# Altium integrated library Linear Technology Power Management Battery Management.IntLib: 626 symbols (part 44 of 56)
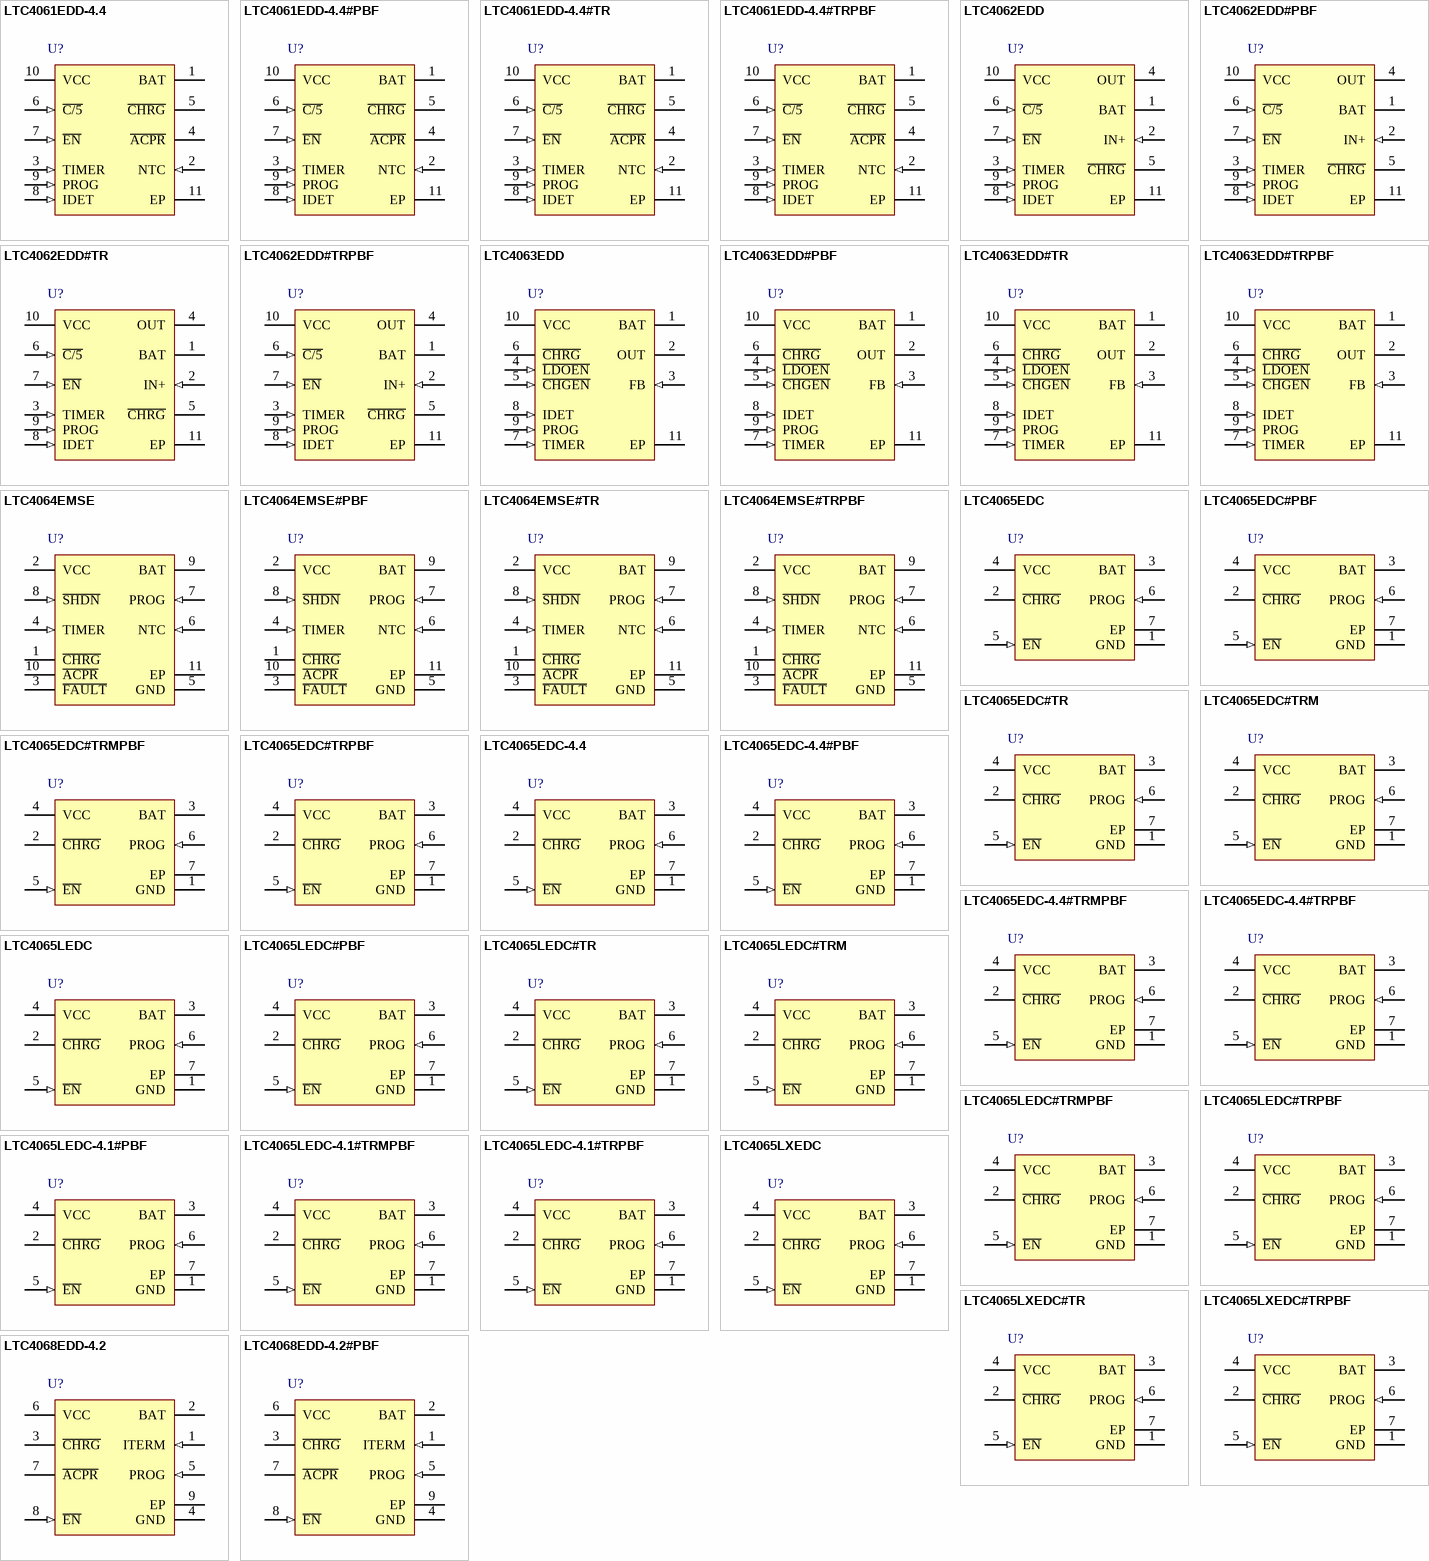
[diagram p65: symbols LTC4061EDD-4.4 to LTC4068EDD-4.2#PBF]

## LTC4065EDC-4.4
designator U?
Standalone 750 mA Li-Ion Battery Charger, 3.75 to 5.5 V Vin, 6-pin SON (DC6-6), -40 to 85 degC; Manufacturer: Linear Technology; PartNumber: LTC4065EDC-4.4; Battery Chemistry: Li-Ion, Li-Polymer; Charge Termination: C/10, On-board timer; Float Voltage: 4.4 V; Max Charge Current(A): 0.75; Number of Cells: 1; Type of Charger: Linear; Vin Max(V): 5.5; Vin Min(V): 3.75; PackageVersion: Rev. B, 06/2010; PackageReference: DC6-6; PackageDescription: 6-Pin Plastic DFN, Body 2 x 2 mm, Pitch 0.5 mm; RoHS: FALSE; Mounting Technology: Surface Mount; Code_JEDEC: MO-229; ComponentLink1Description: Manufacturer URL; ComponentLink1URL: http://www.linear.com/; ComponentLink2Description: Datasheet; ComponentLink2URL: http://cds.linear.com/docs/en/datasheet/406544f.pdf; ComponentLink3Description: Package Specification; ComponentLink3URL: http://cds.linear.com/docs/en/packaging/DFN_6_05-08-1703.pdf
footprint LT-DC6-6_V (SON, 6-Leads, Body 2x2mm, Pitch 0.5mm, Thermal Pad 1.42x0.61mm)
pins: 1 GND (power) "Ground.", 2 ~{CHRG} (hiz) "Open-Drain Charge Status Output. The charge status indicator pin has three states: pull-down, pulse at 2Hz and high impedance state. This output can be used as a logic interface or as an LED driver. When the battery is being (See Datasheet)", 3 BAT (power) "Charge Current Output. Provides charge current to the battery and regulates the final float voltage to 4.4V. An internal precision resistor divider on this pin sets the float voltage and is disconnected in shutdown mode.", 4 VCC (power) "Positive Input Supply Voltage. This pin provides power to the charger. VCC can range from 3.75V to 5.5V. This pin should be bypassed with at least a 1uF capacitor. When VCC is within 30mV of the BAT pin voltage, the (See Datasheet)", 5 ~{EN} (in) "Enable Input Pin. Pulling this pin above the manual shutdown threshold (VMS is typically 0.82V) puts the LTC4065-4.4 in shutdown mode. In shutdown mode, the LTC4065-4.4 has less than 20uA supply current and less than 1uA (See Datasheet)", 6 PROG (in) "Charge Current Program and Charge Current Monitor Pin. Connecting a 1% resistor, RPROG, to ground programs the charge current. When charging in constant-current mode, this pin servos to 1V.", 7 EP (power) "Ground. The Exposed Pad must be soldered to the PCB ground to provide both electrical contact and rated thermal performance."

## LTC4065EDC-4.4#PBF
designator U?
Standalone 750 mA Li-Ion Battery Charger, 3.75 to 5.5 V Vin, 6-pin SON (DC6-6), -40 to 85 degC, Pb-Free; Manufacturer: Linear Technology; PartNumber: LTC4065EDC-4.4#PBF; Battery Chemistry: Li-Ion, Li-Polymer; Charge Termination: C/10, On-board timer; Float Voltage: 4.4 V; Max Charge Current(A): 0.75; Number of Cells: 1; Type of Charger: Linear; Vin Max(V): 5.5; Vin Min(V): 3.75; PackageVersion: Rev. B, 06/2010; PackageReference: DC6-6; PackageDescription: 6-Pin Plastic DFN, Body 2 x 2 mm, Pitch 0.5 mm; RoHS: TRUE; Mounting Technology: Surface Mount; Code_JEDEC: MO-229; ComponentLink1Description: Manufacturer URL; ComponentLink1URL: http://www.linear.com/; ComponentLink2Description: Datasheet; ComponentLink2URL: http://cds.linear.com/docs/en/datasheet/406544f.pdf; ComponentLink3Description: Package Specification; ComponentLink3URL: http://cds.linear.com/docs/en/packaging/DFN_6_05-08-1703.pdf
footprint LT-DC6-6_V (SON, 6-Leads, Body 2x2mm, Pitch 0.5mm, Thermal Pad 1.42x0.61mm)
pins: 1 GND (power) "Ground.", 2 ~{CHRG} (hiz) "Open-Drain Charge Status Output. The charge status indicator pin has three states: pull-down, pulse at 2Hz and high impedance state. This output can be used as a logic interface or as an LED driver. When the battery is being (See Datasheet)", 3 BAT (power) "Charge Current Output. Provides charge current to the battery and regulates the final float voltage to 4.4V. An internal precision resistor divider on this pin sets the float voltage and is disconnected in shutdown mode.", 4 VCC (power) "Positive Input Supply Voltage. This pin provides power to the charger. VCC can range from 3.75V to 5.5V. This pin should be bypassed with at least a 1uF capacitor. When VCC is within 30mV of the BAT pin voltage, the (See Datasheet)", 5 ~{EN} (in) "Enable Input Pin. Pulling this pin above the manual shutdown threshold (VMS is typically 0.82V) puts the LTC4065-4.4 in shutdown mode. In shutdown mode, the LTC4065-4.4 has less than 20uA supply current and less than 1uA (See Datasheet)", 6 PROG (in) "Charge Current Program and Charge Current Monitor Pin. Connecting a 1% resistor, RPROG, to ground programs the charge current. When charging in constant-current mode, this pin servos to 1V.", 7 EP (power) "Ground. The Exposed Pad must be soldered to the PCB ground to provide both electrical contact and rated thermal performance."

## LTC4065EDC-4.4#TRMPBF
designator U?
Standalone 750 mA Li-Ion Battery Charger, 3.75 to 5.5 V Vin, 6-pin SON (DC6-6), -40 to 85 degC, Pb-Free, Mini Tape and Reel; Manufacturer: Linear Technology; PartNumber: LTC4065EDC-4.4#TRMPBF; Battery Chemistry: Li-Ion, Li-Polymer; Charge Termination: C/10, On-board timer; Float Voltage: 4.4 V; Max Charge Current(A): 0.75; Number of Cells: 1; Type of Charger: Linear; Vin Max(V): 5.5; Vin Min(V): 3.75; PackageVersion: Rev. B, 06/2010; PackageReference: DC6-6; PackageDescription: 6-Pin Plastic DFN, Body 2 x 2 mm, Pitch 0.5 mm; Supplier 1: Digi-Key; Supplier Part Number 1: LTC4065EDC-4.4#TRMPBF-ND; Supplier 2: Farnell; Supplier Part Number 2: 1648040; Supplier 3: Newark; Supplier Part Number 3: 75M6066; Packing: Mini Tape and Reel; RoHS: TRUE; Mounting Technology: Surface Mount; Code_JEDEC: MO-229; ComponentLink1Description: Manufacturer URL; ComponentLink1URL: http://www.linear.com/; ComponentLink2Description: Datasheet; ComponentLink2URL: http://cds.linear.com/docs/en/datasheet/406544f.pdf; ComponentLink3Description: Package Specification; ComponentLink3URL: http://cds.linear.com/docs/en/packaging/DFN_6_05-08-1703.pdf
footprint LT-DC6-6_V (SON, 6-Leads, Body 2x2mm, Pitch 0.5mm, Thermal Pad 1.42x0.61mm)
pins: 1 GND (power) "Ground.", 2 ~{CHRG} (hiz) "Open-Drain Charge Status Output. The charge status indicator pin has three states: pull-down, pulse at 2Hz and high impedance state. This output can be used as a logic interface or as an LED driver. When the battery is being (See Datasheet)", 3 BAT (power) "Charge Current Output. Provides charge current to the battery and regulates the final float voltage to 4.4V. An internal precision resistor divider on this pin sets the float voltage and is disconnected in shutdown mode.", 4 VCC (power) "Positive Input Supply Voltage. This pin provides power to the charger. VCC can range from 3.75V to 5.5V. This pin should be bypassed with at least a 1uF capacitor. When VCC is within 30mV of the BAT pin voltage, the (See Datasheet)", 5 ~{EN} (in) "Enable Input Pin. Pulling this pin above the manual shutdown threshold (VMS is typically 0.82V) puts the LTC4065-4.4 in shutdown mode. In shutdown mode, the LTC4065-4.4 has less than 20uA supply current and less than 1uA (See Datasheet)", 6 PROG (in) "Charge Current Program and Charge Current Monitor Pin. Connecting a 1% resistor, RPROG, to ground programs the charge current. When charging in constant-current mode, this pin servos to 1V.", 7 EP (power) "Ground. The Exposed Pad must be soldered to the PCB ground to provide both electrical contact and rated thermal performance."

## LTC4065EDC-4.4#TRPBF
designator U?
Standalone 750 mA Li-Ion Battery Charger, 3.75 to 5.5 V Vin, 6-pin SON (DC6-6), -40 to 85 degC, Pb-Free, Tape and Reel; Manufacturer: Linear Technology; PartNumber: LTC4065EDC-4.4#TRPBF; Battery Chemistry: Li-Ion, Li-Polymer; Charge Termination: C/10, On-board timer; Float Voltage: 4.4 V; Max Charge Current(A): 0.75; Number of Cells: 1; Type of Charger: Linear; Vin Max(V): 5.5; Vin Min(V): 3.75; PackageVersion: Rev. B, 06/2010; PackageReference: DC6-6; PackageDescription: 6-Pin Plastic DFN, Body 2 x 2 mm, Pitch 0.5 mm; Supplier 1: Digi-Key; Supplier Part Number 1: LTC4065EDC-4.4#TRPBF-ND; Packing: Tape and Reel; RoHS: TRUE; Mounting Technology: Surface Mount; Code_JEDEC: MO-229; ComponentLink1Description: Manufacturer URL; ComponentLink1URL: http://www.linear.com/; ComponentLink2Description: Datasheet; ComponentLink2URL: http://cds.linear.com/docs/en/datasheet/406544f.pdf; ComponentLink3Description: Package Specification; ComponentLink3URL: http://cds.linear.com/docs/en/packaging/DFN_6_05-08-1703.pdf
footprint LT-DC6-6_V (SON, 6-Leads, Body 2x2mm, Pitch 0.5mm, Thermal Pad 1.42x0.61mm)
pins: 1 GND (power) "Ground.", 2 ~{CHRG} (hiz) "Open-Drain Charge Status Output. The charge status indicator pin has three states: pull-down, pulse at 2Hz and high impedance state. This output can be used as a logic interface or as an LED driver. When the battery is being (See Datasheet)", 3 BAT (power) "Charge Current Output. Provides charge current to the battery and regulates the final float voltage to 4.4V. An internal precision resistor divider on this pin sets the float voltage and is disconnected in shutdown mode.", 4 VCC (power) "Positive Input Supply Voltage. This pin provides power to the charger. VCC can range from 3.75V to 5.5V. This pin should be bypassed with at least a 1uF capacitor. When VCC is within 30mV of the BAT pin voltage, the (See Datasheet)", 5 ~{EN} (in) "Enable Input Pin. Pulling this pin above the manual shutdown threshold (VMS is typically 0.82V) puts the LTC4065-4.4 in shutdown mode. In shutdown mode, the LTC4065-4.4 has less than 20uA supply current and less than 1uA (See Datasheet)", 6 PROG (in) "Charge Current Program and Charge Current Monitor Pin. Connecting a 1% resistor, RPROG, to ground programs the charge current. When charging in constant-current mode, this pin servos to 1V.", 7 EP (power) "Ground. The Exposed Pad must be soldered to the PCB ground to provide both electrical contact and rated thermal performance."

## LTC4065LEDC
designator U?
Standalone 250 mA Li-Ion Battery Charger, 3.75 to 5.5 V Vin, 6-pin SON (DC6-6), -40 to 85 degC; Manufacturer: Linear Technology; PartNumber: LTC4065LEDC; Battery Chemistry: Li-Ion, Li-Polymer; Charge Termination: C/10, On-board timer; Float Voltage: 4.2 V; Max Charge Current(A): 0.25; Number of Cells: 1; Type of Charger: Linear; Vin Max(V): 5.5; Vin Min(V): 3.75; DatasheetVersion: Rev. B; PackageVersion: Rev. B, 06/2010; PackageReference: DC6-6; PackageDescription: 6-Pin Plastic DFN, Body 2 x 2 mm, Pitch 0.5 mm; RoHS: FALSE; Mounting Technology: Surface Mount; Code_JEDEC: MO-229; ComponentLink1Description: Manufacturer URL; ComponentLink1URL: http://www.linear.com/; ComponentLink2Description: Datasheet; ComponentLink2URL: http://cds.linear.com/docs/en/datasheet/4065lfb.pdf; ComponentLink3Description: Package Specification; ComponentLink3URL: http://cds.linear.com/docs/en/packaging/DFN_6_05-08-1703.pdf
footprint LT-DC6-6_V (SON, 6-Leads, Body 2x2mm, Pitch 0.5mm, Thermal Pad 1.42x0.61mm)
pins: 1 GND (power) "Ground.", 2 ~{CHRG} (hiz) "Open-Drain Charge Status Output. The charge status indicator pin has three states: pull-down, pulse at 2Hz and high impedance state. This output can be used as a logic interface or as an LED driver. When the battery is being (See Datasheet)", 3 BAT (power) "Charge Current Output. Provides charge current to the battery and regulates the final float voltage to 4.4V. An internal precision resistor divider on this pin sets the float voltage and is disconnected in shutdown mode.", 4 VCC (power) "Positive Input Supply Voltage. This pin provides power to the charger. VCC can range from 3.75V to 5.5V. This pin should be bypassed with at least a 1uF capacitor. When VCC is within 30mV of the BAT pin voltage, the (See Datasheet)", 5 ~{EN} (in) "Enable Input Pin. Pulling this pin above the manual shutdown threshold (VMS is typically 0.82V) puts the LTC4065-4.4 in shutdown mode. In shutdown mode, the LTC4065-4.4 has less than 20uA supply current and less than 1uA (See Datasheet)", 6 PROG (in) "Charge Current Program and Charge Current Monitor Pin. Connecting a 1% resistor, RPROG, to ground programs the charge current. When charging in constant-current mode, this pin servos to 1V.", 7 EP (power) "Ground. The Exposed Pad must be soldered to the PCB ground to provide both electrical contact and rated thermal performance."

## LTC4065LEDC#PBF
designator U?
Standalone 250 mA Li-Ion Battery Charger, 3.75 to 5.5 V Vin, 6-pin SON (DC6-6), -40 to 85 degC, Pb-Free; Manufacturer: Linear Technology; PartNumber: LTC4065LEDC#PBF; Battery Chemistry: Li-Ion, Li-Polymer; Charge Termination: C/10, On-board timer; Float Voltage: 4.2 V; Max Charge Current(A): 0.25; Number of Cells: 1; Type of Charger: Linear; Vin Max(V): 5.5; Vin Min(V): 3.75; DatasheetVersion: Rev. B; PackageVersion: Rev. B, 06/2010; PackageReference: DC6-6; PackageDescription: 6-Pin Plastic DFN, Body 2 x 2 mm, Pitch 0.5 mm; RoHS: TRUE; Mounting Technology: Surface Mount; Code_JEDEC: MO-229; ComponentLink1Description: Manufacturer URL; ComponentLink1URL: http://www.linear.com/; ComponentLink2Description: Datasheet; ComponentLink2URL: http://cds.linear.com/docs/en/datasheet/4065lfb.pdf; ComponentLink3Description: Package Specification; ComponentLink3URL: http://cds.linear.com/docs/en/packaging/DFN_6_05-08-1703.pdf
footprint LT-DC6-6_V (SON, 6-Leads, Body 2x2mm, Pitch 0.5mm, Thermal Pad 1.42x0.61mm)
pins: 1 GND (power) "Ground.", 2 ~{CHRG} (hiz) "Open-Drain Charge Status Output. The charge status indicator pin has three states: pull-down, pulse at 2Hz and high impedance state. This output can be used as a logic interface or as an LED driver. When the battery is being (See Datasheet)", 3 BAT (power) "Charge Current Output. Provides charge current to the battery and regulates the final float voltage to 4.4V. An internal precision resistor divider on this pin sets the float voltage and is disconnected in shutdown mode.", 4 VCC (power) "Positive Input Supply Voltage. This pin provides power to the charger. VCC can range from 3.75V to 5.5V. This pin should be bypassed with at least a 1uF capacitor. When VCC is within 30mV of the BAT pin voltage, the (See Datasheet)", 5 ~{EN} (in) "Enable Input Pin. Pulling this pin above the manual shutdown threshold (VMS is typically 0.82V) puts the LTC4065-4.4 in shutdown mode. In shutdown mode, the LTC4065-4.4 has less than 20uA supply current and less than 1uA (See Datasheet)", 6 PROG (in) "Charge Current Program and Charge Current Monitor Pin. Connecting a 1% resistor, RPROG, to ground programs the charge current. When charging in constant-current mode, this pin servos to 1V.", 7 EP (power) "Ground. The Exposed Pad must be soldered to the PCB ground to provide both electrical contact and rated thermal performance."

## LTC4065LEDC#TR
designator U?
Standalone 250 mA Li-Ion Battery Charger, 3.75 to 5.5 V Vin, 6-pin SON (DC6-6), -40 to 85 degC, Tape and Reel; Manufacturer: Linear Technology; PartNumber: LTC4065LEDC#TR; Battery Chemistry: Li-Ion, Li-Polymer; Charge Termination: C/10, On-board timer; Float Voltage: 4.2 V; Max Charge Current(A): 0.25; Number of Cells: 1; Type of Charger: Linear; Vin Max(V): 5.5; Vin Min(V): 3.75; DatasheetVersion: Rev. B; PackageVersion: Rev. B, 06/2010; PackageReference: DC6-6; PackageDescription: 6-Pin Plastic DFN, Body 2 x 2 mm, Pitch 0.5 mm; Packing: Tape and Reel; RoHS: FALSE; Mounting Technology: Surface Mount; Code_JEDEC: MO-229; ComponentLink1Description: Manufacturer URL; ComponentLink1URL: http://www.linear.com/; ComponentLink2Description: Datasheet; ComponentLink2URL: http://cds.linear.com/docs/en/datasheet/4065lfb.pdf; ComponentLink3Description: Package Specification; ComponentLink3URL: http://cds.linear.com/docs/en/packaging/DFN_6_05-08-1703.pdf
footprint LT-DC6-6_V (SON, 6-Leads, Body 2x2mm, Pitch 0.5mm, Thermal Pad 1.42x0.61mm)
pins: 1 GND (power) "Ground.", 2 ~{CHRG} (hiz) "Open-Drain Charge Status Output. The charge status indicator pin has three states: pull-down, pulse at 2Hz and high impedance state. This output can be used as a logic interface or as an LED driver. When the battery is being (See Datasheet)", 3 BAT (power) "Charge Current Output. Provides charge current to the battery and regulates the final float voltage to 4.4V. An internal precision resistor divider on this pin sets the float voltage and is disconnected in shutdown mode.", 4 VCC (power) "Positive Input Supply Voltage. This pin provides power to the charger. VCC can range from 3.75V to 5.5V. This pin should be bypassed with at least a 1uF capacitor. When VCC is within 30mV of the BAT pin voltage, the (See Datasheet)", 5 ~{EN} (in) "Enable Input Pin. Pulling this pin above the manual shutdown threshold (VMS is typically 0.82V) puts the LTC4065-4.4 in shutdown mode. In shutdown mode, the LTC4065-4.4 has less than 20uA supply current and less than 1uA (See Datasheet)", 6 PROG (in) "Charge Current Program and Charge Current Monitor Pin. Connecting a 1% resistor, RPROG, to ground programs the charge current. When charging in constant-current mode, this pin servos to 1V.", 7 EP (power) "Ground. The Exposed Pad must be soldered to the PCB ground to provide both electrical contact and rated thermal performance."

## LTC4065LEDC#TRM
designator U?
Standalone 250 mA Li-Ion Battery Charger, 3.75 to 5.5 V Vin, 6-pin SON (DC6-6), -40 to 85 degC, Mini Tape and Reel; Manufacturer: Linear Technology; PartNumber: LTC4065LEDC#TRM; Battery Chemistry: Li-Ion, Li-Polymer; Charge Termination: C/10, On-board timer; Float Voltage: 4.2 V; Max Charge Current(A): 0.25; Number of Cells: 1; Type of Charger: Linear; Vin Max(V): 5.5; Vin Min(V): 3.75; DatasheetVersion: Rev. B; PackageVersion: Rev. B, 06/2010; PackageReference: DC6-6; PackageDescription: 6-Pin Plastic DFN, Body 2 x 2 mm, Pitch 0.5 mm; Supplier 1: Farnell; Supplier Part Number 1: 1648041; Packing: Mini Tape and Reel; RoHS: FALSE; Mounting Technology: Surface Mount; Code_JEDEC: MO-229; ComponentLink1Description: Manufacturer URL; ComponentLink1URL: http://www.linear.com/; ComponentLink2Description: Datasheet; ComponentLink2URL: http://cds.linear.com/docs/en/datasheet/4065lfb.pdf; ComponentLink3Description: Package Specification; ComponentLink3URL: http://cds.linear.com/docs/en/packaging/DFN_6_05-08-1703.pdf
footprint LT-DC6-6_V (SON, 6-Leads, Body 2x2mm, Pitch 0.5mm, Thermal Pad 1.42x0.61mm)
pins: 1 GND (power) "Ground.", 2 ~{CHRG} (hiz) "Open-Drain Charge Status Output. The charge status indicator pin has three states: pull-down, pulse at 2Hz and high impedance state. This output can be used as a logic interface or as an LED driver. When the battery is being (See Datasheet)", 3 BAT (power) "Charge Current Output. Provides charge current to the battery and regulates the final float voltage to 4.4V. An internal precision resistor divider on this pin sets the float voltage and is disconnected in shutdown mode.", 4 VCC (power) "Positive Input Supply Voltage. This pin provides power to the charger. VCC can range from 3.75V to 5.5V. This pin should be bypassed with at least a 1uF capacitor. When VCC is within 30mV of the BAT pin voltage, the (See Datasheet)", 5 ~{EN} (in) "Enable Input Pin. Pulling this pin above the manual shutdown threshold (VMS is typically 0.82V) puts the LTC4065-4.4 in shutdown mode. In shutdown mode, the LTC4065-4.4 has less than 20uA supply current and less than 1uA (See Datasheet)", 6 PROG (in) "Charge Current Program and Charge Current Monitor Pin. Connecting a 1% resistor, RPROG, to ground programs the charge current. When charging in constant-current mode, this pin servos to 1V.", 7 EP (power) "Ground. The Exposed Pad must be soldered to the PCB ground to provide both electrical contact and rated thermal performance."

## LTC4065LEDC#TRMPBF
designator U?
Standalone 250 mA Li-Ion Battery Charger, 3.75 to 5.5 V Vin, 6-pin SON (DC6-6), -40 to 85 degC, Pb-Free, Mini Tape and Reel; Manufacturer: Linear Technology; PartNumber: LTC4065LEDC#TRMPBF; Battery Chemistry: Li-Ion, Li-Polymer; Charge Termination: C/10, On-board timer; Float Voltage: 4.2 V; Max Charge Current(A): 0.25; Number of Cells: 1; Type of Charger: Linear; Vin Max(V): 5.5; Vin Min(V): 3.75; DatasheetVersion: Rev. B; PackageVersion: Rev. B, 06/2010; PackageReference: DC6-6; PackageDescription: 6-Pin Plastic DFN, Body 2 x 2 mm, Pitch 0.5 mm; Supplier 1: Digi-Key; Supplier Part Number 1: LTC4065LEDC#TRMPBFTR-ND; Supplier 2: Digi-Key; Supplier Part Number 2: LTC4065LEDC#TRMPBFCT-ND; Supplier 3: Digi-Key; Supplier Part Number 3: LTC4065LEDC#TRMPBFDKR-ND; Supplier 4: Newark; Supplier Part Number 4: 56M8679; Packing: Mini Tape and Reel; RoHS: TRUE; Mounting Technology: Surface Mount; Code_JEDEC: MO-229; ComponentLink1Description: Manufacturer URL; ComponentLink1URL: http://www.linear.com/; ComponentLink2Description: Datasheet; ComponentLink2URL: http://cds.linear.com/docs/en/datasheet/4065lfb.pdf; ComponentLink3Description: Package Specification; ComponentLink3URL: http://cds.linear.com/docs/en/packaging/DFN_6_05-08-1703.pdf
footprint LT-DC6-6_V (SON, 6-Leads, Body 2x2mm, Pitch 0.5mm, Thermal Pad 1.42x0.61mm)
pins: 1 GND (power) "Ground.", 2 ~{CHRG} (hiz) "Open-Drain Charge Status Output. The charge status indicator pin has three states: pull-down, pulse at 2Hz and high impedance state. This output can be used as a logic interface or as an LED driver. When the battery is being (See Datasheet)", 3 BAT (power) "Charge Current Output. Provides charge current to the battery and regulates the final float voltage to 4.4V. An internal precision resistor divider on this pin sets the float voltage and is disconnected in shutdown mode.", 4 VCC (power) "Positive Input Supply Voltage. This pin provides power to the charger. VCC can range from 3.75V to 5.5V. This pin should be bypassed with at least a 1uF capacitor. When VCC is within 30mV of the BAT pin voltage, the (See Datasheet)", 5 ~{EN} (in) "Enable Input Pin. Pulling this pin above the manual shutdown threshold (VMS is typically 0.82V) puts the LTC4065-4.4 in shutdown mode. In shutdown mode, the LTC4065-4.4 has less than 20uA supply current and less than 1uA (See Datasheet)", 6 PROG (in) "Charge Current Program and Charge Current Monitor Pin. Connecting a 1% resistor, RPROG, to ground programs the charge current. When charging in constant-current mode, this pin servos to 1V.", 7 EP (power) "Ground. The Exposed Pad must be soldered to the PCB ground to provide both electrical contact and rated thermal performance."

## LTC4065LEDC#TRPBF
designator U?
Standalone 250 mA Li-Ion Battery Charger, 3.75 to 5.5 V Vin, 6-pin SON (DC6-6), -40 to 85 degC, Pb-Free, Tape and Reel; Manufacturer: Linear Technology; PartNumber: LTC4065LEDC#TRPBF; Battery Chemistry: Li-Ion, Li-Polymer; Charge Termination: C/10, On-board timer; Float Voltage: 4.2 V; Max Charge Current(A): 0.25; Number of Cells: 1; Type of Charger: Linear; Vin Max(V): 5.5; Vin Min(V): 3.75; DatasheetVersion: Rev. B; PackageVersion: Rev. B, 06/2010; PackageReference: DC6-6; PackageDescription: 6-Pin Plastic DFN, Body 2 x 2 mm, Pitch 0.5 mm; Supplier 1: Digi-Key; Supplier Part Number 1: LTC4065LEDC#TRPBF-ND; Packing: Tape and Reel; RoHS: TRUE; Mounting Technology: Surface Mount; Code_JEDEC: MO-229; ComponentLink1Description: Manufacturer URL; ComponentLink1URL: http://www.linear.com/; ComponentLink2Description: Datasheet; ComponentLink2URL: http://cds.linear.com/docs/en/datasheet/4065lfb.pdf; ComponentLink3Description: Package Specification; ComponentLink3URL: http://cds.linear.com/docs/en/packaging/DFN_6_05-08-1703.pdf
footprint LT-DC6-6_V (SON, 6-Leads, Body 2x2mm, Pitch 0.5mm, Thermal Pad 1.42x0.61mm)
pins: 1 GND (power) "Ground.", 2 ~{CHRG} (hiz) "Open-Drain Charge Status Output. The charge status indicator pin has three states: pull-down, pulse at 2Hz and high impedance state. This output can be used as a logic interface or as an LED driver. When the battery is being (See Datasheet)", 3 BAT (power) "Charge Current Output. Provides charge current to the battery and regulates the final float voltage to 4.4V. An internal precision resistor divider on this pin sets the float voltage and is disconnected in shutdown mode.", 4 VCC (power) "Positive Input Supply Voltage. This pin provides power to the charger. VCC can range from 3.75V to 5.5V. This pin should be bypassed with at least a 1uF capacitor. When VCC is within 30mV of the BAT pin voltage, the (See Datasheet)", 5 ~{EN} (in) "Enable Input Pin. Pulling this pin above the manual shutdown threshold (VMS is typically 0.82V) puts the LTC4065-4.4 in shutdown mode. In shutdown mode, the LTC4065-4.4 has less than 20uA supply current and less than 1uA (See Datasheet)", 6 PROG (in) "Charge Current Program and Charge Current Monitor Pin. Connecting a 1% resistor, RPROG, to ground programs the charge current. When charging in constant-current mode, this pin servos to 1V.", 7 EP (power) "Ground. The Exposed Pad must be soldered to the PCB ground to provide both electrical contact and rated thermal performance."

## LTC4065LEDC-4.1#PBF
designator U?
Standalone 250 mA Li-Ion Battery Charger, 3.75 to 5.5 V Vin, 6-pin SON (DC6-6), -40 to 85 degC, Pb-Free; Manufacturer: Linear Technology; PartNumber: LTC4065LEDC-4.1#PBF; Battery Chemistry: Li-Ion, Li-Polymer; Charge Termination: C/10, On-board timer; Float Voltage: 4.1 V; Max Charge Current(A): 0.25; Number of Cells: 1; Type of Charger: Linear; Vin Max(V): 5.5; Vin Min(V): 3.75; DatasheetVersion: Rev. B; PackageVersion: Rev. B, 06/2010; PackageReference: DC6-6; PackageDescription: 6-Pin Plastic DFN, Body 2 x 2 mm, Pitch 0.5 mm; RoHS: TRUE; Mounting Technology: Surface Mount; Code_JEDEC: MO-229; ComponentLink1Description: Manufacturer URL; ComponentLink1URL: http://www.linear.com/; ComponentLink2Description: Datasheet; ComponentLink2URL: http://cds.linear.com/docs/en/datasheet/4065lfb.pdf; ComponentLink3Description: Package Specification; ComponentLink3URL: http://cds.linear.com/docs/en/packaging/DFN_6_05-08-1703.pdf
footprint LT-DC6-6_V (SON, 6-Leads, Body 2x2mm, Pitch 0.5mm, Thermal Pad 1.42x0.61mm)
pins: 1 GND (power) "Ground.", 2 ~{CHRG} (hiz) "Open-Drain Charge Status Output. The charge status indicator pin has three states: pull-down, pulse at 2Hz and high impedance state. This output can be used as a logic interface or as an LED driver. When the battery is being (See Datasheet)", 3 BAT (power) "Charge Current Output. Provides charge current to the battery and regulates the final float voltage to 4.4V. An internal precision resistor divider on this pin sets the float voltage and is disconnected in shutdown mode.", 4 VCC (power) "Positive Input Supply Voltage. This pin provides power to the charger. VCC can range from 3.75V to 5.5V. This pin should be bypassed with at least a 1uF capacitor. When VCC is within 30mV of the BAT pin voltage, the (See Datasheet)", 5 ~{EN} (in) "Enable Input Pin. Pulling this pin above the manual shutdown threshold (VMS is typically 0.82V) puts the LTC4065-4.4 in shutdown mode. In shutdown mode, the LTC4065-4.4 has less than 20uA supply current and less than 1uA (See Datasheet)", 6 PROG (in) "Charge Current Program and Charge Current Monitor Pin. Connecting a 1% resistor, RPROG, to ground programs the charge current. When charging in constant-current mode, this pin servos to 1V.", 7 EP (power) "Ground. The Exposed Pad must be soldered to the PCB ground to provide both electrical contact and rated thermal performance."

## LTC4065LEDC-4.1#TRMPBF
designator U?
Standalone 250 mA Li-Ion Battery Charger, 3.75 to 5.5 V Vin, 6-pin SON (DC6-6), -40 to 85 degC, Pb-Free, Mini Tape and Reel; Manufacturer: Linear Technology; PartNumber: LTC4065LEDC-4.1#TRMPBF; Battery Chemistry: Li-Ion, Li-Polymer; Charge Termination: C/10, On-board timer; Float Voltage: 4.1 V; Max Charge Current(A): 0.25; Number of Cells: 1; Type of Charger: Linear; Vin Max(V): 5.5; Vin Min(V): 3.75; DatasheetVersion: Rev. B; PackageVersion: Rev. B, 06/2010; PackageReference: DC6-6; PackageDescription: 6-Pin Plastic DFN, Body 2 x 2 mm, Pitch 0.5 mm; Supplier 1: Digi-Key; Supplier Part Number 1: LTC4065LEDC-4.1#TRMPBF-ND; Packing: Mini Tape and Reel; RoHS: TRUE; Mounting Technology: Surface Mount; Code_JEDEC: MO-229; ComponentLink1Description: Manufacturer URL; ComponentLink1URL: http://www.linear.com/; ComponentLink2Description: Datasheet; ComponentLink2URL: http://cds.linear.com/docs/en/datasheet/4065lfb.pdf; ComponentLink3Description: Package Specification; ComponentLink3URL: http://cds.linear.com/docs/en/packaging/DFN_6_05-08-1703.pdf
footprint LT-DC6-6_V (SON, 6-Leads, Body 2x2mm, Pitch 0.5mm, Thermal Pad 1.42x0.61mm)
pins: 1 GND (power) "Ground.", 2 ~{CHRG} (hiz) "Open-Drain Charge Status Output. The charge status indicator pin has three states: pull-down, pulse at 2Hz and high impedance state. This output can be used as a logic interface or as an LED driver. When the battery is being (See Datasheet)", 3 BAT (power) "Charge Current Output. Provides charge current to the battery and regulates the final float voltage to 4.4V. An internal precision resistor divider on this pin sets the float voltage and is disconnected in shutdown mode.", 4 VCC (power) "Positive Input Supply Voltage. This pin provides power to the charger. VCC can range from 3.75V to 5.5V. This pin should be bypassed with at least a 1uF capacitor. When VCC is within 30mV of the BAT pin voltage, the (See Datasheet)", 5 ~{EN} (in) "Enable Input Pin. Pulling this pin above the manual shutdown threshold (VMS is typically 0.82V) puts the LTC4065-4.4 in shutdown mode. In shutdown mode, the LTC4065-4.4 has less than 20uA supply current and less than 1uA (See Datasheet)", 6 PROG (in) "Charge Current Program and Charge Current Monitor Pin. Connecting a 1% resistor, RPROG, to ground programs the charge current. When charging in constant-current mode, this pin servos to 1V.", 7 EP (power) "Ground. The Exposed Pad must be soldered to the PCB ground to provide both electrical contact and rated thermal performance."

## LTC4065LEDC-4.1#TRPBF
designator U?
Standalone 250 mA Li-Ion Battery Charger, 3.75 to 5.5 V Vin, 6-pin SON (DC6-6), -40 to 85 degC, Pb-Free, Tape and Reel; Manufacturer: Linear Technology; PartNumber: LTC4065LEDC-4.1#TRPBF; Battery Chemistry: Li-Ion, Li-Polymer; Charge Termination: C/10, On-board timer; Float Voltage: 4.1 V; Max Charge Current(A): 0.25; Number of Cells: 1; Type of Charger: Linear; Vin Max(V): 5.5; Vin Min(V): 3.75; DatasheetVersion: Rev. B; PackageVersion: Rev. B, 06/2010; PackageReference: DC6-6; PackageDescription: 6-Pin Plastic DFN, Body 2 x 2 mm, Pitch 0.5 mm; Supplier 1: Digi-Key; Supplier Part Number 1: LTC4065LEDC-4.1#TRPBF-ND; Packing: Tape and Reel; RoHS: TRUE; Mounting Technology: Surface Mount; Code_JEDEC: MO-229; ComponentLink1Description: Manufacturer URL; ComponentLink1URL: http://www.linear.com/; ComponentLink2Description: Datasheet; ComponentLink2URL: http://cds.linear.com/docs/en/datasheet/4065lfb.pdf; ComponentLink3Description: Package Specification; ComponentLink3URL: http://cds.linear.com/docs/en/packaging/DFN_6_05-08-1703.pdf
footprint LT-DC6-6_V (SON, 6-Leads, Body 2x2mm, Pitch 0.5mm, Thermal Pad 1.42x0.61mm)
pins: 1 GND (power) "Ground.", 2 ~{CHRG} (hiz) "Open-Drain Charge Status Output. The charge status indicator pin has three states: pull-down, pulse at 2Hz and high impedance state. This output can be used as a logic interface or as an LED driver. When the battery is being (See Datasheet)", 3 BAT (power) "Charge Current Output. Provides charge current to the battery and regulates the final float voltage to 4.4V. An internal precision resistor divider on this pin sets the float voltage and is disconnected in shutdown mode.", 4 VCC (power) "Positive Input Supply Voltage. This pin provides power to the charger. VCC can range from 3.75V to 5.5V. This pin should be bypassed with at least a 1uF capacitor. When VCC is within 30mV of the BAT pin voltage, the (See Datasheet)", 5 ~{EN} (in) "Enable Input Pin. Pulling this pin above the manual shutdown threshold (VMS is typically 0.82V) puts the LTC4065-4.4 in shutdown mode. In shutdown mode, the LTC4065-4.4 has less than 20uA supply current and less than 1uA (See Datasheet)", 6 PROG (in) "Charge Current Program and Charge Current Monitor Pin. Connecting a 1% resistor, RPROG, to ground programs the charge current. When charging in constant-current mode, this pin servos to 1V.", 7 EP (power) "Ground. The Exposed Pad must be soldered to the PCB ground to provide both electrical contact and rated thermal performance."

## LTC4065LXEDC
designator U?
Standalone 250 mA Li-Ion Battery Charger, 3.75 to 5.5 V Vin, 6-pin SON (DC6-6), -40 to 85 degC; Manufacturer: Linear Technology; PartNumber: LTC4065LXEDC; Battery Chemistry: Li-Ion, Li-Polymer; Charge Termination: C/10, On-board timer; Float Voltage: 4.2 V; Max Charge Current(A): 0.25; Number of Cells: 1; Type of Charger: Linear; Vin Max(V): 5.5; Vin Min(V): 3.75; DatasheetVersion: Rev. B; PackageVersion: Rev. B, 06/2010; PackageReference: DC6-6; PackageDescription: 6-Pin Plastic DFN, Body 2 x 2 mm, Pitch 0.5 mm; RoHS: FALSE; Mounting Technology: Surface Mount; Code_JEDEC: MO-229; ComponentLink1Description: Manufacturer URL; ComponentLink1URL: http://www.linear.com/; ComponentLink2Description: Datasheet; ComponentLink2URL: http://cds.linear.com/docs/en/datasheet/4065lfb.pdf; ComponentLink3Description: Package Specification; ComponentLink3URL: http://cds.linear.com/docs/en/packaging/DFN_6_05-08-1703.pdf
footprint LT-DC6-6_V (SON, 6-Leads, Body 2x2mm, Pitch 0.5mm, Thermal Pad 1.42x0.61mm)
pins: 1 GND (power) "Ground.", 2 ~{CHRG} (hiz) "Open-Drain Charge Status Output. The charge status indicator pin has three states: pull-down, pulse at 2Hz and high impedance state. This output can be used as a logic interface or as an LED driver. When the battery is being (See Datasheet)", 3 BAT (power) "Charge Current Output. Provides charge current to the battery and regulates the final float voltage to 4.4V. An internal precision resistor divider on this pin sets the float voltage and is disconnected in shutdown mode.", 4 VCC (power) "Positive Input Supply Voltage. This pin provides power to the charger. VCC can range from 3.75V to 5.5V. This pin should be bypassed with at least a 1uF capacitor. When VCC is within 30mV of the BAT pin voltage, the (See Datasheet)", 5 ~{EN} (in) "Enable Input Pin. Pulling this pin above the manual shutdown threshold (VMS is typically 0.82V) puts the LTC4065-4.4 in shutdown mode. In shutdown mode, the LTC4065-4.4 has less than 20uA supply current and less than 1uA (See Datasheet)", 6 PROG (in) "Charge Current Program and Charge Current Monitor Pin. Connecting a 1% resistor, RPROG, to ground programs the charge current. When charging in constant-current mode, this pin servos to 1V.", 7 EP (power) "Ground. The Exposed Pad must be soldered to the PCB ground to provide both electrical contact and rated thermal performance."

## LTC4065LXEDC#TR
designator U?
Standalone 250 mA Li-Ion Battery Charger, 3.75 to 5.5 V Vin, 6-pin SON (DC6-6), -40 to 85 degC, Tape and Reel; Manufacturer: Linear Technology; PartNumber: LTC4065LXEDC#TR; Battery Chemistry: Li-Ion, Li-Polymer; Charge Termination: C/10, On-board timer; Float Voltage: 4.2 V; Max Charge Current(A): 0.25; Number of Cells: 1; Type of Charger: Linear; Vin Max(V): 5.5; Vin Min(V): 3.75; DatasheetVersion: Rev. B; PackageVersion: Rev. B, 06/2010; PackageReference: DC6-6; PackageDescription: 6-Pin Plastic DFN, Body 2 x 2 mm, Pitch 0.5 mm; Packing: Tape and Reel; RoHS: FALSE; Mounting Technology: Surface Mount; Code_JEDEC: MO-229; ComponentLink1Description: Manufacturer URL; ComponentLink1URL: http://www.linear.com/; ComponentLink2Description: Datasheet; ComponentLink2URL: http://cds.linear.com/docs/en/datasheet/4065lfb.pdf; ComponentLink3Description: Package Specification; ComponentLink3URL: http://cds.linear.com/docs/en/packaging/DFN_6_05-08-1703.pdf
footprint LT-DC6-6_V (SON, 6-Leads, Body 2x2mm, Pitch 0.5mm, Thermal Pad 1.42x0.61mm)
pins: 1 GND (power) "Ground.", 2 ~{CHRG} (hiz) "Open-Drain Charge Status Output. The charge status indicator pin has three states: pull-down, pulse at 2Hz and high impedance state. This output can be used as a logic interface or as an LED driver. When the battery is being (See Datasheet)", 3 BAT (power) "Charge Current Output. Provides charge current to the battery and regulates the final float voltage to 4.4V. An internal precision resistor divider on this pin sets the float voltage and is disconnected in shutdown mode.", 4 VCC (power) "Positive Input Supply Voltage. This pin provides power to the charger. VCC can range from 3.75V to 5.5V. This pin should be bypassed with at least a 1uF capacitor. When VCC is within 30mV of the BAT pin voltage, the (See Datasheet)", 5 ~{EN} (in) "Enable Input Pin. Pulling this pin above the manual shutdown threshold (VMS is typically 0.82V) puts the LTC4065-4.4 in shutdown mode. In shutdown mode, the LTC4065-4.4 has less than 20uA supply current and less than 1uA (See Datasheet)", 6 PROG (in) "Charge Current Program and Charge Current Monitor Pin. Connecting a 1% resistor, RPROG, to ground programs the charge current. When charging in constant-current mode, this pin servos to 1V.", 7 EP (power) "Ground. The Exposed Pad must be soldered to the PCB ground to provide both electrical contact and rated thermal performance."

## LTC4065LXEDC#TRPBF
designator U?
Standalone 250 mA Li-Ion Battery Charger, 3.75 to 5.5 V Vin, 6-pin SON (DC6-6), -40 to 85 degC, Pb-Free, Tape and Reel; Manufacturer: Linear Technology; PartNumber: LTC4065LXEDC#TRPBF; Battery Chemistry: Li-Ion, Li-Polymer; Charge Termination: C/10, On-board timer; Float Voltage: 4.2 V; Max Charge Current(A): 0.25; Number of Cells: 1; Type of Charger: Linear; Vin Max(V): 5.5; Vin Min(V): 3.75; DatasheetVersion: Rev. B; PackageVersion: Rev. B, 06/2010; PackageReference: DC6-6; PackageDescription: 6-Pin Plastic DFN, Body 2 x 2 mm, Pitch 0.5 mm; Supplier 1: Digi-Key; Supplier Part Number 1: LTC4065LXEDC#TRPBF-ND; Supplier 2: Newark; Supplier Part Number 2: 56M8683; Packing: Tape and Reel; RoHS: TRUE; Mounting Technology: Surface Mount; Code_JEDEC: MO-229; ComponentLink1Description: Manufacturer URL; ComponentLink1URL: http://www.linear.com/; ComponentLink2Description: Datasheet; ComponentLink2URL: http://cds.linear.com/docs/en/datasheet/4065lfb.pdf; ComponentLink3Description: Package Specification; ComponentLink3URL: http://cds.linear.com/docs/en/packaging/DFN_6_05-08-1703.pdf
footprint LT-DC6-6_V (SON, 6-Leads, Body 2x2mm, Pitch 0.5mm, Thermal Pad 1.42x0.61mm)
pins: 1 GND (power) "Ground.", 2 ~{CHRG} (hiz) "Open-Drain Charge Status Output. The charge status indicator pin has three states: pull-down, pulse at 2Hz and high impedance state. This output can be used as a logic interface or as an LED driver. When the battery is being (See Datasheet)", 3 BAT (power) "Charge Current Output. Provides charge current to the battery and regulates the final float voltage to 4.4V. An internal precision resistor divider on this pin sets the float voltage and is disconnected in shutdown mode.", 4 VCC (power) "Positive Input Supply Voltage. This pin provides power to the charger. VCC can range from 3.75V to 5.5V. This pin should be bypassed with at least a 1uF capacitor. When VCC is within 30mV of the BAT pin voltage, the (See Datasheet)", 5 ~{EN} (in) "Enable Input Pin. Pulling this pin above the manual shutdown threshold (VMS is typically 0.82V) puts the LTC4065-4.4 in shutdown mode. In shutdown mode, the LTC4065-4.4 has less than 20uA supply current and less than 1uA (See Datasheet)", 6 PROG (in) "Charge Current Program and Charge Current Monitor Pin. Connecting a 1% resistor, RPROG, to ground programs the charge current. When charging in constant-current mode, this pin servos to 1V.", 7 EP (power) "Ground. The Exposed Pad must be soldered to the PCB ground to provide both electrical contact and rated thermal performance."

## LTC4068EDD-4.2
designator U?
Standalone Linear Li-Ion Battery Charger with Programmable Termination, 4.25 to 6.5 V Vin, 8-pin SON (DD-8), -40 to 85 degC; Manufacturer: Linear Technology; PartNumber: LTC4068EDD-4.2; Battery Chemistry: Li-Ion, Li-Polymer; Charge Termination: C/x; Float Voltage: 4.2 V; Max Charge Current(A): 0.95; Number of Cells: 1; Vin Max(V): 6.5; Vin Min(V): 4.25; DatasheetVersion: Rev. A; PackageVersion: Jun-10; PackageReference: DD-8; PackageDescription: 8-Pin Plastic DFN, Body 3 x 3 mm, Pitch 0.5 mm; Supplier 1: Digi-Key; Supplier Part Number 1: LTC4068EDD-4.2-ND; RoHS: FALSE; Type of Charger: Linear; Mounting Technology: Surface Mount; Code_JEDEC: MO-229; ComponentLink1Description: Manufacturer URL; ComponentLink1URL: http://www.linear.com/; ComponentLink2Description: Datasheet; ComponentLink2URL: http://cds.linear.com/docs/en/datasheet/406842fa.pdf; ComponentLink3Description: Package Specification; ComponentLink3URL: http://cds.linear.com/docs/en/packaging/DFN_8_05-08-1698.pdf
footprint LT-DD-8_V (SON, 8-Leads, Body 3x3mm, Pitch 0.5mm, Thermal Pad 1.65x2.38 mm)
pins: 1 ITERM (in) "Charge Termination Program. The charge termination current threshold current is programmed by connecting a 1% resistor, RTERM, to ground.", 2 BAT (power) "Charge Current Output. Provides charge current to the battery from the internal P-channel MOSFET, and regulates the final float voltage to 4.2V. An internal precision resistor divider from this pin sets the float voltage. (See Datasheet)", 3 ~{CHRG} (hiz) "Charge Status Open-Drain Output. When the battery is charging, the C\H\R\G\ pin is pulled low by an internal N-channel MOSFET. When the charge cycle is completed, C\H\R\G\ becomes high impedance.", 4 GND (power) "Ground/Exposed Pad. The exposed backside package pad (Pin 9) is electrical ground and must be soldered to the PC board for maximum heat transfer.", 5 PROG (in) "Charge Current Program and Charge Current Monitor. Charge current is programmed by connecting a 1% resistor, RPROG, to ground. When charging in constant-current mode, this pin servos to 1V.", 6 VCC (power) "Positive Input Supply Voltage. Provides power to the charger. VCC can range from 4.25V to 6.5V. This pin should be bypassed with at least a 1uF capacitor.When VCC is within 100mV of the BAT pin voltage, the LTC4068 enters (See Datasheet)", 7 ~{ACPR} (hiz) "Power Supply Status Open-Drain Output. When VCC is greater than the undervoltage lockout threshold and at least 100mV above VBAT, the A\C\P\R\ pin is pulled to ground; otherwise, the pin is high impedance.", 8 ~{EN} (in) "Enable Input . A logic high on the E\N\ pin will put the LTC4068 into shutdown mode where the battery drain current is reduced to less than 2uA and the supply current is reduced to less than 50uA. A logic low or floating the (See Datasheet)", 9 EP (power) "Ground/Exposed Pad. The exposed backside package pad (Pin 9) is electrical ground and must be soldered to the PC board for maximum heat transfer."

## LTC4068EDD-4.2#PBF
designator U?
Standalone Linear Li-Ion Battery Charger with Programmable Termination, 4.25 to 6.5 V Vin, 8-pin SON (DD-8), -40 to 85 degC, Pb-Free; Manufacturer: Linear Technology; PartNumber: LTC4068EDD-4.2#PBF; Battery Chemistry: Li-Ion, Li-Polymer; Charge Termination: C/x; Float Voltage: 4.2 V; Max Charge Current(A): 0.95; Number of Cells: 1; Vin Max(V): 6.5; Vin Min(V): 4.25; DatasheetVersion: Rev. A; PackageVersion: Jun-10; PackageReference: DD-8; PackageDescription: 8-Pin Plastic DFN, Body 3 x 3 mm, Pitch 0.5 mm; Supplier 1: Digi-Key; Supplier Part Number 1: LTC4068EDD-4.2#PBF-ND; Supplier 2: Farnell; Supplier Part Number 2: 1648042; Supplier 3: Newark; Supplier Part Number 3: 58M0918; RoHS: TRUE; Type of Charger: Linear; Mounting Technology: Surface Mount; Code_JEDEC: MO-229; ComponentLink1Description: Manufacturer URL; ComponentLink1URL: http://www.linear.com/; ComponentLink2Description: Datasheet; ComponentLink2URL: http://cds.linear.com/docs/en/datasheet/406842fa.pdf; ComponentLink3Description: Package Specification; ComponentLink3URL: http://cds.linear.com/docs/en/packaging/DFN_8_05-08-1698.pdf
footprint LT-DD-8_V (SON, 8-Leads, Body 3x3mm, Pitch 0.5mm, Thermal Pad 1.65x2.38 mm)
pins: 1 ITERM (in) "Charge Termination Program. The charge termination current threshold current is programmed by connecting a 1% resistor, RTERM, to ground.", 2 BAT (power) "Charge Current Output. Provides charge current to the battery from the internal P-channel MOSFET, and regulates the final float voltage to 4.2V. An internal precision resistor divider from this pin sets the float voltage. (See Datasheet)", 3 ~{CHRG} (hiz) "Charge Status Open-Drain Output. When the battery is charging, the C\H\R\G\ pin is pulled low by an internal N-channel MOSFET. When the charge cycle is completed, C\H\R\G\ becomes high impedance.", 4 GND (power) "Ground/Exposed Pad. The exposed backside package pad (Pin 9) is electrical ground and must be soldered to the PC board for maximum heat transfer.", 5 PROG (in) "Charge Current Program and Charge Current Monitor. Charge current is programmed by connecting a 1% resistor, RPROG, to ground. When charging in constant-current mode, this pin servos to 1V.", 6 VCC (power) "Positive Input Supply Voltage. Provides power to the charger. VCC can range from 4.25V to 6.5V. This pin should be bypassed with at least a 1uF capacitor.When VCC is within 100mV of the BAT pin voltage, the LTC4068 enters (See Datasheet)", 7 ~{ACPR} (hiz) "Power Supply Status Open-Drain Output. When VCC is greater than the undervoltage lockout threshold and at least 100mV above VBAT, the A\C\P\R\ pin is pulled to ground; otherwise, the pin is high impedance.", 8 ~{EN} (in) "Enable Input . A logic high on the E\N\ pin will put the LTC4068 into shutdown mode where the battery drain current is reduced to less than 2uA and the supply current is reduced to less than 50uA. A logic low or floating the (See Datasheet)", 9 EP (power) "Ground/Exposed Pad. The exposed backside package pad (Pin 9) is electrical ground and must be soldered to the PC board for maximum heat transfer."

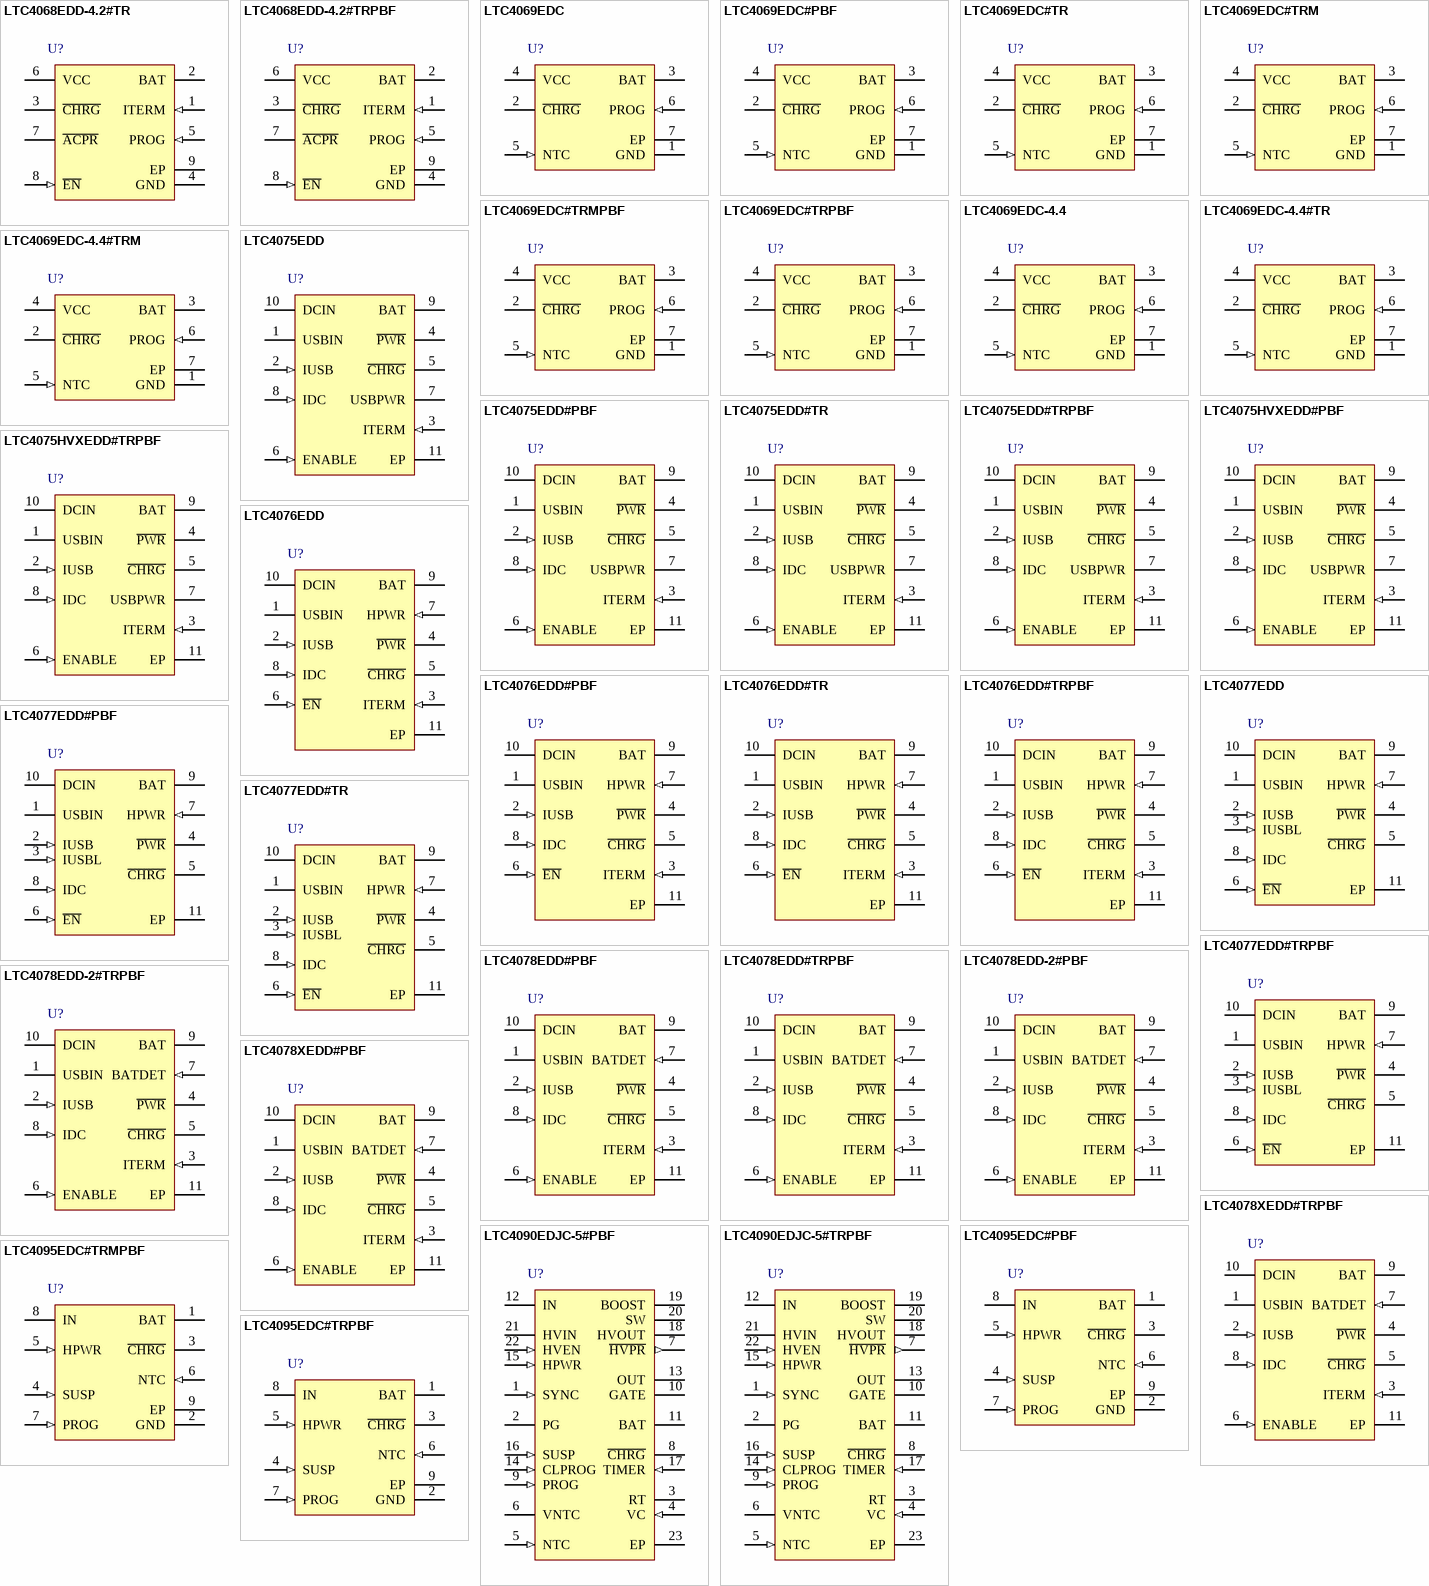
[diagram p18: symbols LTC4068EDD-4.2#TR to LTC4095EDC#TRPBF]

## LTC4068EDD-4.2#TR
designator U?
Standalone Linear Li-Ion Battery Charger with Programmable Termination, 4.25 to 6.5 V Vin, 8-pin SON (DD-8), -40 to 85 degC, Tape and Reel; Manufacturer: Linear Technology; PartNumber: LTC4068EDD-4.2#TR; Battery Chemistry: Li-Ion, Li-Polymer; Charge Termination: C/x; Float Voltage: 4.2 V; Max Charge Current(A): 0.95; Number of Cells: 1; Vin Max(V): 6.5; Vin Min(V): 4.25; DatasheetVersion: Rev. A; PackageVersion: Jun-10; PackageReference: DD-8; PackageDescription: 8-Pin Plastic DFN, Body 3 x 3 mm, Pitch 0.5 mm; Supplier 1: Digi-Key; Supplier Part Number 1: LTC4068EDD-4.2#TR-ND; Packing: Tape and Reel; RoHS: FALSE; Type of Charger: Linear; Mounting Technology: Surface Mount; Code_JEDEC: MO-229; ComponentLink1Description: Manufacturer URL; ComponentLink1URL: http://www.linear.com/; ComponentLink2Description: Datasheet; ComponentLink2URL: http://cds.linear.com/docs/en/datasheet/406842fa.pdf; ComponentLink3Description: Package Specification; ComponentLink3URL: http://cds.linear.com/docs/en/packaging/DFN_8_05-08-1698.pdf
footprint LT-DD-8_V (SON, 8-Leads, Body 3x3mm, Pitch 0.5mm, Thermal Pad 1.65x2.38 mm)
pins: 1 ITERM (in) "Charge Termination Program. The charge termination current threshold current is programmed by connecting a 1% resistor, RTERM, to ground.", 2 BAT (power) "Charge Current Output. Provides charge current to the battery from the internal P-channel MOSFET, and regulates the final float voltage to 4.2V. An internal precision resistor divider from this pin sets the float voltage. (See Datasheet)", 3 ~{CHRG} (hiz) "Charge Status Open-Drain Output. When the battery is charging, the C\H\R\G\ pin is pulled low by an internal N-channel MOSFET. When the charge cycle is completed, C\H\R\G\ becomes high impedance.", 4 GND (power) "Ground/Exposed Pad. The exposed backside package pad (Pin 9) is electrical ground and must be soldered to the PC board for maximum heat transfer.", 5 PROG (in) "Charge Current Program and Charge Current Monitor. Charge current is programmed by connecting a 1% resistor, RPROG, to ground. When charging in constant-current mode, this pin servos to 1V.", 6 VCC (power) "Positive Input Supply Voltage. Provides power to the charger. VCC can range from 4.25V to 6.5V. This pin should be bypassed with at least a 1uF capacitor.When VCC is within 100mV of the BAT pin voltage, the LTC4068 enters (See Datasheet)", 7 ~{ACPR} (hiz) "Power Supply Status Open-Drain Output. When VCC is greater than the undervoltage lockout threshold and at least 100mV above VBAT, the A\C\P\R\ pin is pulled to ground; otherwise, the pin is high impedance.", 8 ~{EN} (in) "Enable Input . A logic high on the E\N\ pin will put the LTC4068 into shutdown mode where the battery drain current is reduced to less than 2uA and the supply current is reduced to less than 50uA. A logic low or floating the (See Datasheet)", 9 EP (power) "Ground/Exposed Pad. The exposed backside package pad (Pin 9) is electrical ground and must be soldered to the PC board for maximum heat transfer."